# EAGLE library part 16PIN (library Headers)
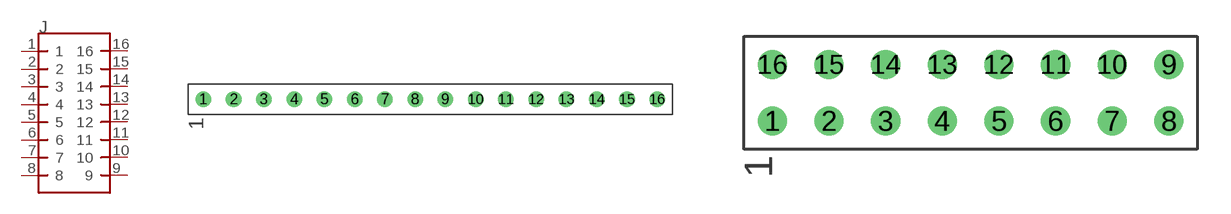
[diagram p7: symbol with the pads of 2.54MM1X16TH; footprints 2.54MM1X16TH, 2.54MM2X8TH]

Designator prefix J

## 16PIN2.54MM1X16TH  [2.54MM1X16TH]
1  1
2  2
3  3
4  4
5  5
6  6
7  7
8  8
9  9
10  10
11  11
12  12
13  13
14  14
15  15
16  16

## 16PIN2.54MM2X8TH  [2.54MM2X8TH]
Pads as for 2.54MM1X16TH

## Footprint 2.54MM1X16TH (pad centres in mm)
drill 0.8: 1 0,0; 2 2.54,0; 3 5.08,0; 4 7.62,0; 5 10.16,0; 6 12.7,0; 7 15.24,0; 8 17.78,0; 9 20.32,0; 10 22.86,0; 11 25.4,0; 12 27.94,0; 13 30.48,0; 14 33.02,0; 15 35.56,0; 16 38.1,0

## Footprint 2.54MM2X8TH (pad centres in mm)
drill 0.8: 1 0,0; 2 2.54,0; 3 5.08,0; 4 7.62,0; 5 10.16,0; 6 12.7,0; 7 15.24,0; 8 17.78,0; 9 17.78,2.54; 10 15.24,2.54; 11 12.7,2.54; 12 10.16,2.54; 13 7.62,2.54; 14 5.08,2.54; 15 2.54,2.54; 16 0,2.54